# Altium footprint library RES.PcbLib: 33 footprints (part 2 of 3)
Each footprint in its own frame and in the unit in brackets; x right, y up, seen from the top. Pads: shape width x height; smd on the part's side, far side on the other; paste and mask are expansions set on the pad; w line width, h text height; cw(c..) or ccw(c..) is an arc to the next point about the centre after c.
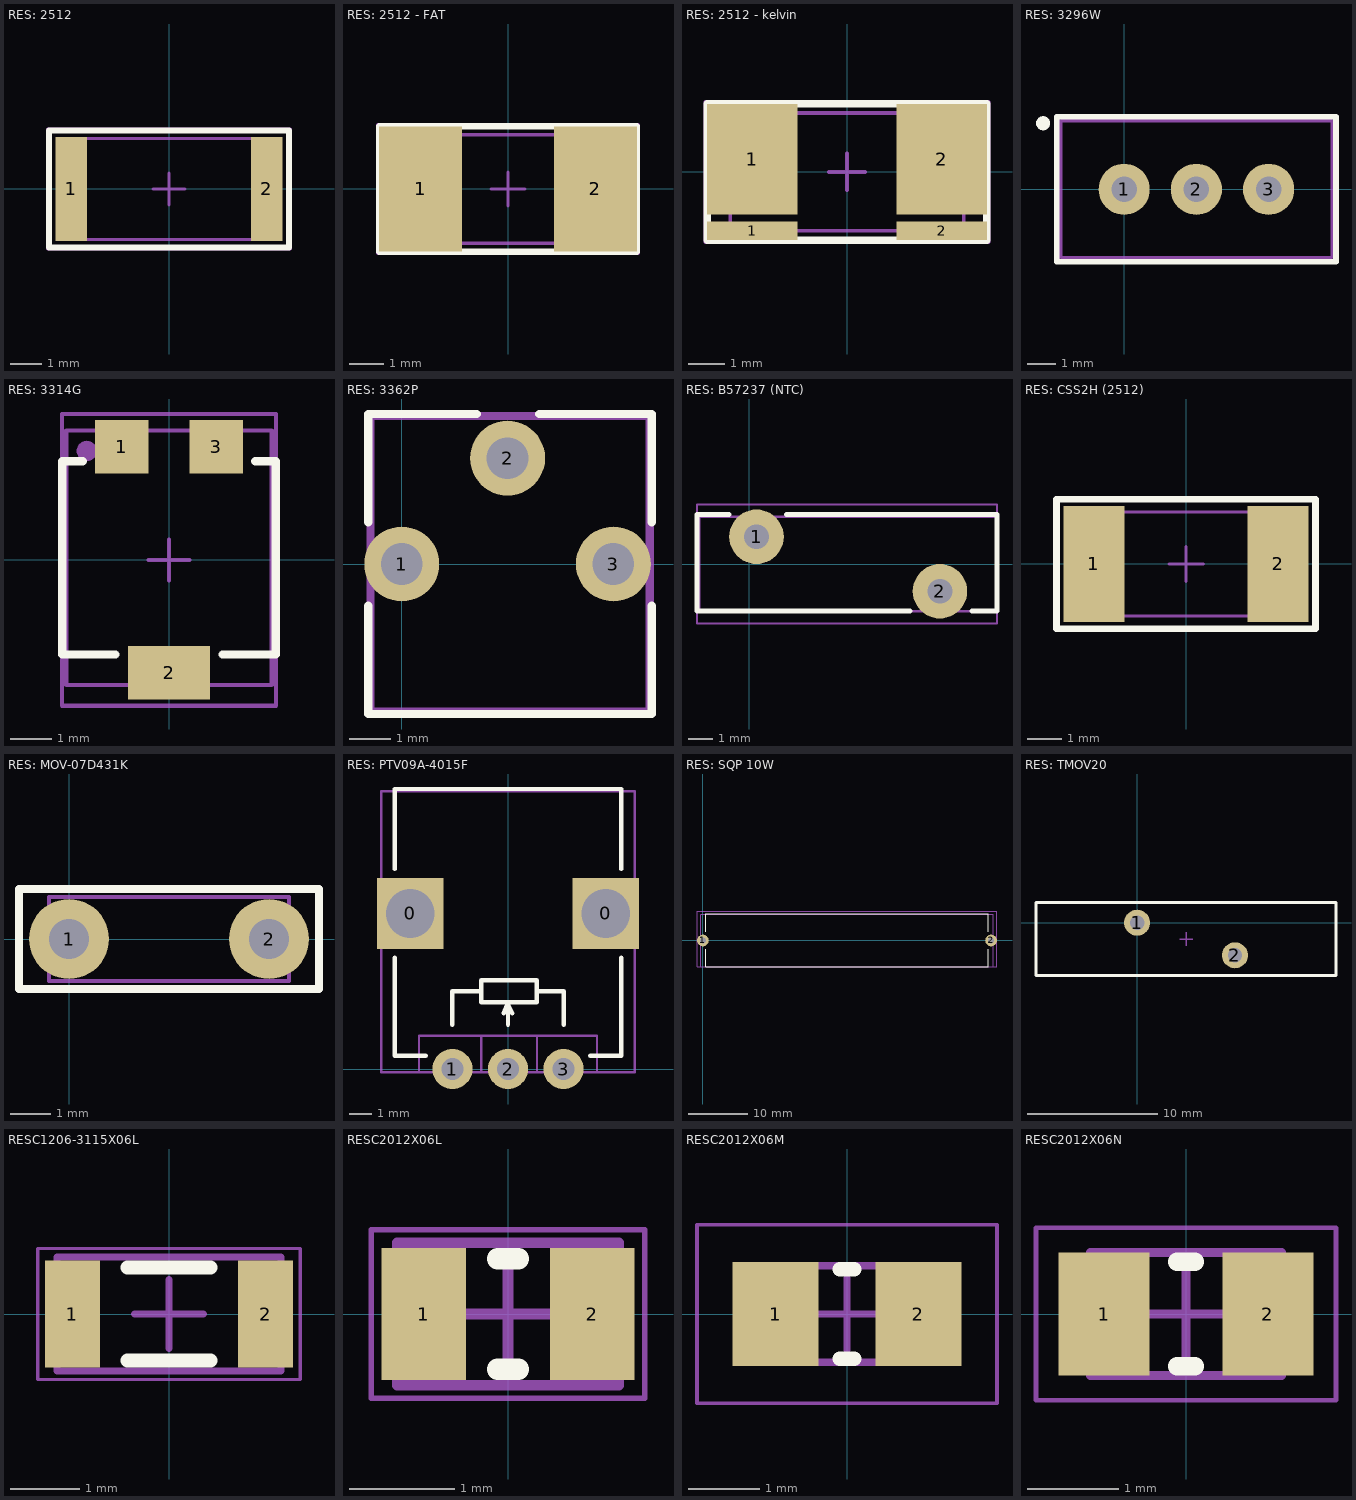
[diagram p1: the footprints below, top view; thin cyan lines are the x and y axes]

## RES: 2512 [mm]
height 0.55
pads (2):
  rect 1x3.3 smd: 1(-3.1,0) 2(3.1,0)
Top Overlay:
  lines w0.2: -3.8,-1.85 -3.8,1.85 3.8,1.85 3.8,-1.85 -3.8,-1.85
Mechanical 1:
  lines w0.1: -3.175,-1.6 -3.175,1.6 3.175,1.6 3.175,-1.6 -3.175,-1.6
Mechanical 15:
  lines w0.1: -0.5,0 0.5,0 ; 0,-0.5 0,0.5 ; -3.85,-1.9 3.85,-1.9 3.85,1.9 -3.85,1.9 -3.85,-1.9
3D body "2512.SLDPRT": height 0.61, standoff -0.01, extent -3.2,-1.613 3.2,1.613

## RES: 2512 - FAT [mm]
height 0.55
pads (2):
  rect 2.45x3.7 smd: 1(-2.575,0) 2(2.575,0)
Top Overlay:
  lines w0.2: -3.8,-1.85 -3.8,1.85 3.8,1.85 3.8,-1.85 -3.8,-1.85
Mechanical 1:
  lines w0.1: -3.175,-1.6 -3.175,1.6 3.175,1.6 3.175,-1.6 -3.175,-1.6
Mechanical 15:
  lines w0.1: -0.5,0 0.5,0 ; 0,-0.5 0,0.5 ; -3.85,-1.9 3.85,-1.9 3.85,1.9 -3.85,1.9 -3.85,-1.9
3D body "chip_2512_r.STEP": height 0.52, standoff -0.04, extent -3.175,-1.6 3.175,1.6

## RES: 2512 - kelvin [mm]
height 0.55
pads (4):
  rect 2.45x0.5 smd: 1(-2.575,-1.6) 2(2.575,-1.6)
  rect 2.45x3 smd: 1(-2.575,0.35) 2(2.575,0.35)
Top Overlay:
  lines w0.2: -3.8,-1.85 3.8,-1.85 3.8,1.85 -3.8,1.85 -3.8,-1.85
Mechanical 1:
  lines w0.1: -3.175,-1.6 3.175,-1.6 3.175,1.6 -3.175,1.6 -3.175,-1.6
Mechanical 15:
  lines w0.1: -0.5,0 0.5,0 ; 0,-0.5 0,0.5 ; -3.85,-1.9 -3.85,1.9 3.85,1.9 3.85,-1.9 -3.85,-1.9
3D body "chip_2512_r.STEP": height 0.52, standoff -0.04, extent -3.175,-1.6 3.175,1.6

## RES: 3296W [mm]
pads (4):
  round 1.8 hole 0.9: 1(0,0) 2(2.54,0) 3(5.08,0)
  round 0.5 on Top Overlay: ""(-2.85,2.325)
Top Overlay:
  lines w0.2: -2.375,-2.55 -2.375,2.55 7.45,2.55 7.45,-2.55 -2.375,-2.55
Mechanical 1:
  lines w0.1: -2.225,-2.4 -2.225,2.4 7.305,2.4 7.305,-2.4 -2.225,-2.4
Mechanical 15:
  lines w0.1: -2.3,-2.5 7.4,-2.5 7.4,2.5 -2.3,2.5 -2.3,-2.5
3D body "User Library-3296W.STEP": height 11.55, standoff -1.6, extent -2.225,-2.4 7.305,2.4

## RES: 3314G [mm]
pads (4):
  rect 1.3x1.3 smd: 1(-1.15,2.75) 3(1.15,2.75)
  rect 2x1.3 smd: 2(0,-2.75)
  round 0.5 on Mech1: ""(-2,2.65)
Top Overlay:
  lines w0.2: -2.1,2.4 -2.6,2.4 -2.6,-2.3 -1.3,-2.3 ; 1.3,-2.3 2.6,-2.3 2.6,2.4 2.1,2.4
Mechanical 1:
  lines w0.1: -2.499,-3.049 2.5,-3.049 2.5,3.149 -2.499,3.149 -2.499,-3.049
Mechanical 15:
  lines w0.1: -0.5,0 0.5,0 ; 0,-0.5 0,0.5 ; -2.6,-3.55 2.6,-3.55 2.6,3.55 -2.6,3.55 -2.6,-3.55
3D body "3314g-1-103e.stp": height 2.72, standoff -0.01, extent -2.499,-3.049 2.5,3.149

## RES: 3362P [mm]
pads (3):
  round 1.8 hole 1: 1(0,0) 2(2.54,2.54) 3(5.08,0)
Top Overlay:
  lines w0.2: -0.8,-1 -0.8,-3.6 6,-3.6 6,-1 ; -0.8,1 -0.8,3.6 1.8,3.6 ; 3.3,3.6 6,3.6 6,1
Mechanical 1:
  lines w0.1: -0.7,-3.49 5.9,-3.49 5.9,3.5 -0.7,3.5 -0.7,-3.49
Mechanical 15:
  lines w0.1: -0.8,-3.6 6,-3.6 6,3.6 -0.8,3.6 -0.8,-3.6
3D body "User Library-R_3362P.STEP": height 4.5, standoff -3, extent -0.7,-3.49 5.9,3.5

## RES: B57237 (NTC) [mm]
pads (2):
  round 2.2 hole 1: 1(0.3,1.1) 2(7.7,-1.1)
Top Overlay:
  lines w0.2: -0.8,2 -2.1,2 -2.1,-1.9 6.5,-1.9 ; 1.5,2 10,2 10,-1.9 9,-1.9
Mechanical 1:
  lines w0.1: -2,-1.9 -2,1.902 10,1.902 10,-1.9 -2,-1.9
Mechanical 15:
  lines w0.1: -2.1,-2.4 10,-2.4 10,2.4 -2.1,2.4 -2.1,-2.4
3D body "User Library-S10K275.STEP": height 13, standoff -2.5, extent -2,-1.9 10,1.902

## RES: CSS2H (2512) [mm]
pads (2):
  rect 1.8x3.4 smd: 1(-2.7,0) 2(2.7,0)
Top Overlay:
  lines w0.2: -3.8,-1.9 -3.8,1.9 3.8,1.9 3.8,-1.9 -3.8,-1.9
Mechanical 1:
  lines w0.1: -3.175,-1.525 3.175,-1.525 3.175,1.525 -3.175,1.525 -3.175,-1.525
Mechanical 15:
  lines w0.1: -0.5,0 0.5,0 ; 0,-0.5 0,0.5 ; -3.85,-1.9 3.85,-1.9 3.85,1.9 -3.85,1.9 -3.85,-1.9
3D body "CSS2H-2512.STEP": height 0.83, standoff 0, extent -3.175,-1.525 3.175,1.525

## RES: MOV-07D431K [mm]
pads (2):
  round 2 hole 1: 1(0,0) 2(5,0)
Top Overlay:
  lines w0.2: -1.25,-1.25 6.25,-1.25 6.25,1.25 -1.25,1.25 -1.25,-1.25
Mechanical 1:
  lines w0.1: -0.5,-1.05 5.5,-1.05 5.5,1.05 -0.5,1.05 -0.5,-1.05
Mechanical 15:
  lines w0.1: -1.25,-1.25 -1.25,1.25 6.25,1.25 6.25,-1.25 -1.25,-1.25
3D body "User Library-Disc_CAP d6x3_5_5mm.STEP": height 8.1, standoff -2.02, extent -0.5,-1.05 5.5,1.05

## RES: PTV09A-4015F [mm]
pads (5):
  rect 3x3.2 hole 2.2 square: 0(-4.4,7) 0(4.4,7)
  round 1.8 hole 1: 1(-2.5,0) 2(0,0) 3(2.5,0)
Top Overlay:
  lines w0.2: -5.1,5 -5.1,0.6 -3.7,0.6 ; -5.1,9 -5.1,12.6 5.1,12.6 5.1,9 ; -2.5,2 -2.5,3.5 -1.2,3.5 ; -0.2,2.5 0,3 0,2 ; 0,2.9 0.2,2.5 ; 1.3,3.5 2.5,3.5 2.5,2 ; 3.7,0.6 5.1,0.6 5.1,5 ; -1.2,3.5 -1.2,4 1.3,4 1.3,3 -1.2,3 -1.2,3.5
Mechanical 1:
  lines w0.1: -4,-0.15 -4,1.5 4,1.5 4,-0.15 ; -2.5,2 -2.5,3.5 -1.2,3.5 ; -1.2,-0.15 -1.2,1.5 ; -0.2,2.5 0,3 ; 0,2 0,3 ; 0.2,2.5 0,3 ; 1.3,-0.15 1.3,1.5 ; 1.3,3.5 2.5,3.5 2.5,2 ; -1.2,3.5 -1.2,4 1.3,4 1.3,3 -1.2,3 -1.2,3.5 ; -5.7,-0.15 5.7,-0.15 5.7,12.5 -5.7,12.5 -5.7,-0.15
3D body "6666.STEP": height 15.05, standoff -3.94, extent -5.7,-0.15 5.7,12.5

## RES: SQP 10W [mm]
pads (2):
  round 2 hole 1: 1(0,0) 2(49,0)
Top Overlay:
  lines w0.2: 0.5,-1.5 0.5,-4.5 48.5,-4.5 48.5,-1.5 ; 0.5,1.5 0.5,4.5 48.5,4.5 48.5,1.5
Mechanical 1:
  lines w0.1: -0.4,4.4 -0.4,-4.5 49.4,-4.5 49.4,4.5 -0.4,4.5
Mechanical 15:
  lines w0.1: -1,-4.5 -1,5 50,5 50,-4.5 -1,-4.5
3D body "User Library-SQP10AJB-1R8.STEP": height 10.55, standoff -4.04, extent -0.4,-4.5 49.4,4.5

## RES: TMOV20 [mm]
pads (2):
  round 2 hole 1.1: 1(0,0) 2(7.5,-2.5)
Top Overlay:
  lines w0.2: -7.75,-4.05 -7.75,1.55 15.246,1.55 15.246,-4.05 -7.75,-4.05
Mechanical 1:
  lines w0.1: -7.75,-4.05 -7.75,1.55 15.246,1.55 15.246,-4.05 -7.75,-4.05
Mechanical 15:
  lines w0.1: 3.25,-1.25 4.25,-1.25 ; 3.75,-1.75 3.75,-0.75 ; -7.75,-4.05 -7.75,1.55 15.246,1.55 15.246,-4.05 -7.75,-4.05
3D body "User Library-Varistor 20mm.STEP": height 26.7, standoff -2.8, extent -7.75,-4.05 15.246,1.55

## RESC1206-3115X06L [mm] "Chip Resistor, 2-Leads, Body 3.13x1.55mm, IPC High Density"
height 0.6
pads (2):
  rect 0.8x1.55 smd: 1(-1.4,0) 2(1.4,0)
Top Overlay:
  lines w0.2: -0.6,-0.675 0.6,-0.675 ; -0.6,0.675 0.6,0.675
Top 3D Body:
  lines w0.1: -1.625,-0.825 -1.625,0.825 1.625,0.825 1.625,-0.825 -1.625,-0.825
Mechanical 15:
  lines w0.05: -1.9,-0.95 -1.9,0.95 1.9,0.95 1.9,-0.95 -1.9,-0.95
  lines w0.1: -0.5,0 0.5,0 ; 0,-0.5 0,0.5
3D body "RESC1206-3115X06L.step": height 0.6, standoff 0, extent -1.625,-0.825 1.625,0.825

## RESC2012X06L [mm] "Chip Resistor, 2-Leads, Body 2.00x1.25mm, IPC High Density"
height 0.6
pads (2):
  rect 0.8x1.25 smd: 1(-0.8,0) 2(0.8,0)
Top Overlay:
  lines w0.2: -0.1,-0.525 0.1,-0.525 ; -0.1,0.525 0.1,0.525
Top Courtyard (Mech6):
  lines w0.05: -1.3,-0.8 -1.3,0.8 1.3,0.8 1.3,-0.8 -1.3,-0.8
  lines w0.1: -0.5,0 0.5,0 ; 0,-0.5 0,0.5
Top 3D Body:
  lines w0.1: -1.05,-0.675 -1.05,0.675 1.05,0.675 1.05,-0.675 -1.05,-0.675
3D body "RESC2012X06L.step": height 0.6, standoff 0, extent -1.05,-0.675 1.05,0.675

## RESC2012X06M [mm] "Chip Resistor, 2-Leads, Body 2.00x1.25mm, IPC Low Density"
height 0.6
pads (2):
  rect 1.2x1.45 smd: 1(-1,0) 2(1,0)
Top Overlay:
  lines w0.2: -0.1,-0.625 0.1,-0.625 ; -0.1,0.625 0.1,0.625
Top Courtyard (Mech6):
  lines w0.05: -2.1,-1.25 -2.1,1.25 2.1,1.25 2.1,-1.25 -2.1,-1.25
  lines w0.1: -0.5,0 0.5,0 ; 0,-0.5 0,0.5
Top 3D Body:
  lines w0.1: -1.05,-0.675 -1.05,0.675 1.05,0.675 1.05,-0.675 -1.05,-0.675
3D body "RESC2012X06M.step": height 0.6, standoff 0, extent -1.05,-0.675 1.05,0.675

## RESC2012X06N [mm] "Chip Resistor, 2-Leads, Body 2.00x1.25mm, IPC Medium Density"
height 0.6
pads (2):
  rect 1x1.35 smd: 1(-0.9,0) 2(0.9,0)
Top Overlay:
  lines w0.2: -0.1,-0.575 0.1,-0.575 ; -0.1,0.575 0.1,0.575
Top Courtyard (Mech6):
  lines w0.05: -1.65,-0.95 -1.65,0.95 1.65,0.95 1.65,-0.95 -1.65,-0.95
  lines w0.1: -0.5,0 0.5,0 ; 0,-0.5 0,0.5
Top 3D Body:
  lines w0.1: -1.05,-0.675 -1.05,0.675 1.05,0.675 1.05,-0.675 -1.05,-0.675
3D body "RESC2012X06N.step": height 0.6, standoff 0, extent -1.05,-0.675 1.05,0.675